# EAGLE library part CADDOCK-1776-C4815 (library CADDOCK-1776)
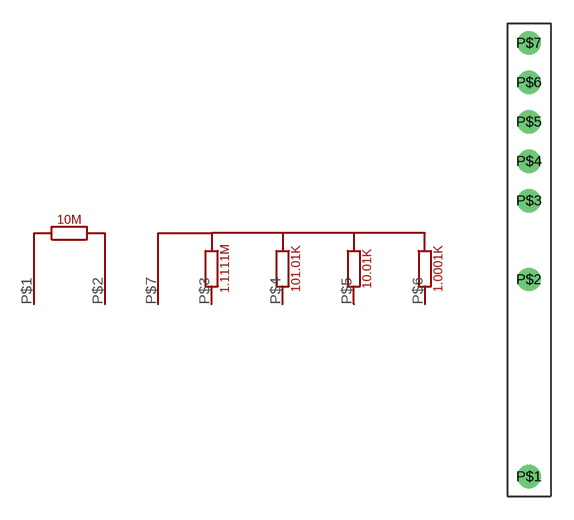
[diagram p0: symbol with the pads of CADDOCK-1776-C4815; footprint CADDOCK-1776-C4815]

Designator prefix -

## CADDOCK-1776-C4815  [CADDOCK-1776-C4815]
P$1  P$1
P$2  P$2
P$3  P$3
P$4  P$4
P$5  P$5
P$6  P$6
P$7  P$7

## Footprint CADDOCK-1776-C4815 (pad centres in mm)
drill 1: P$1 0,1.27; P$2 0,13.97; P$3 0,19.05; P$4 0,21.59; P$5 0,24.13; P$6 0,26.67; P$7 0,29.21